# Altium schematic symbol library GSM-V2.SCHLIB: 45 symbols
Pins are listed as number, name and electrical type; pins without a type are passive.

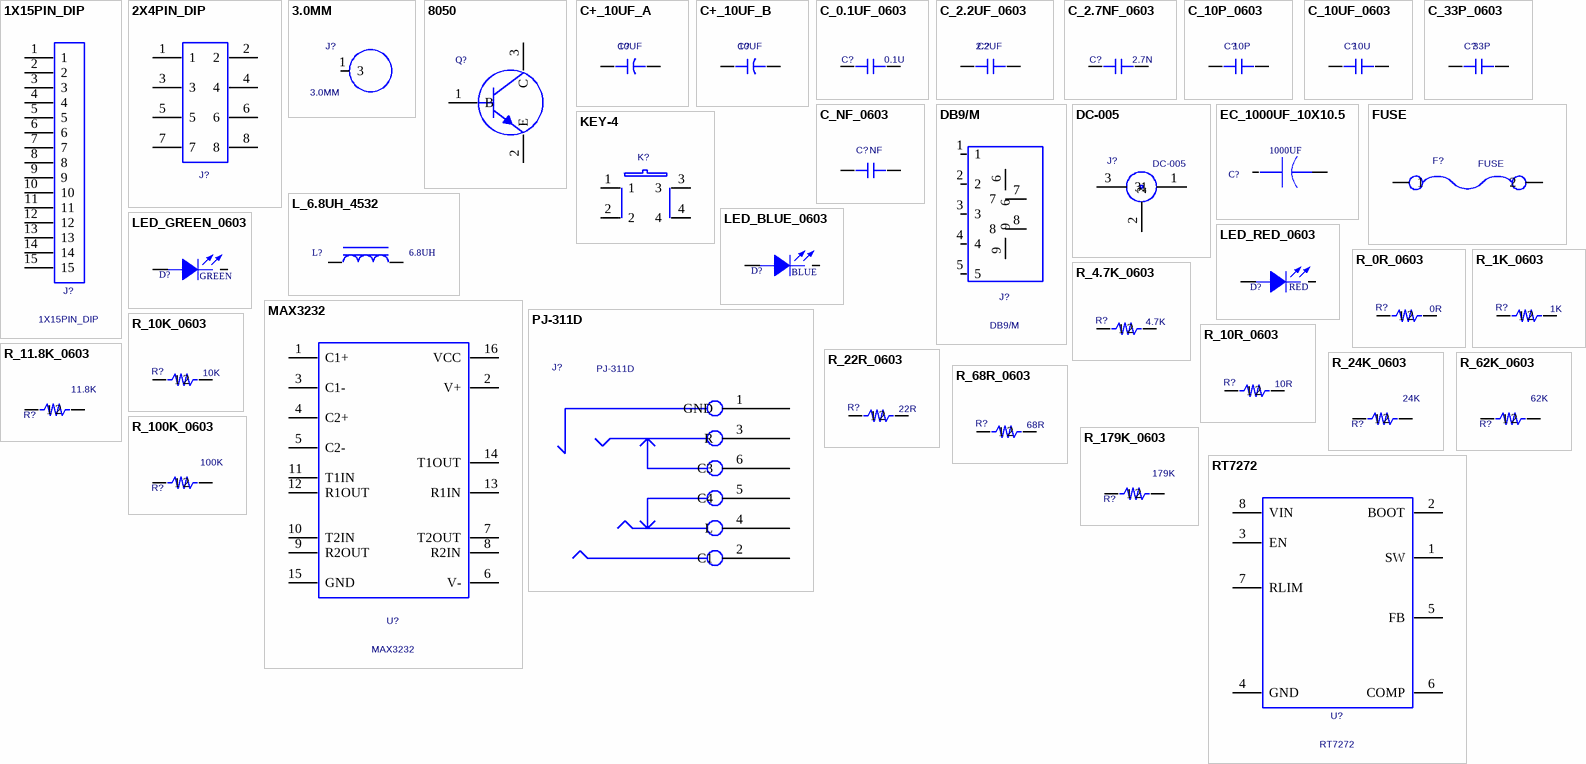
[diagram p0: symbols 1X15PIN_DIP to RT7272]

## 1X15PIN_DIP
designator J?
PCB DECAL: 1X15PIN_DIP
footprint 1X15PIN_DIP
pins: 1, 2, 3, 4, 5, 6, 7, 8, 9, 10, 11, 12, 13, 14, 15

## 2X4PIN_DIP
designator J?  (value not drawn)
PCB DECAL: 2X4PIN_DIP
footprint 2X4PIN_DIP
pins: 1, 2, 3, 4, 5, 6, 7, 8

## 3.0MM
designator J?
PCB DECAL: 3.0MM-5
footprint 3.0MM-5
pins: 1 3

## 8050
designator Q?  (value not drawn)
NPN; PCB DECAL: SOT-23; Manufacturer #2: 8050
footprint SOT-23
pins: 1 B, 2 E, 3 C

## C+_10UF_A
designator C?  value 10UF  (hidden comment: C+_10UF_A)
PCB DECAL: AVX_A_3216-18
footprint AVX_A_3216-18
pins: 1 +, 2 -

## C+_10UF_B
designator C?  value 10UF  (hidden comment: C+_10UF_B)
PCB DECAL: AVX_B_3528-21
footprint AVX_B_3528-21
pins: 1 +, 2 -

## C_0.1UF_0603
designator C?  value 0.1U  (hidden comment: C_0.1UF_0603)
PCB DECAL: C_0603
footprint C_0603
pins: 1, 2

## C_2.2UF_0603
designator C?  value 2.2UF  (hidden comment: C_2.2UF_0603)
PCB DECAL: R_0603
footprint R_0603
pins: 1, 2

## C_2.7NF_0603
designator C?  value 2.7N  (hidden comment: C_2.7NF_0603)
PCB DECAL: C_0603
footprint C_0603
pins: 1, 2

## C_10P_0603
designator C?  value 10P  (hidden comment: C_10P_0603)
PCB DECAL: C_0603
footprint C_0603
pins: 1, 2

## C_10UF_0603
designator C?  value 10U  (hidden comment: C_10UF_0603)
PCB DECAL: C_0603
footprint C_0603
pins: 1, 2

## C_33P_0603
designator C?  value 33P  (hidden comment: C_33P_0603)
PCB DECAL: C_0603
footprint C_0603
pins: 1, 2

## C_NF_0603
designator C?  value NF  (hidden comment: C_NF_0603)
PCB DECAL: R_0603
footprint R_0603
pins: 1, 2

## DB9/M
designator J?
PCB DECAL: DB9
footprint DB9
pins: 1, 2, 3, 4, 5, 6, 7, 8, 9

## DC-005
designator J?
PCB DECAL: DC-005
footprint DC-005
pins: 1, 2, 3

## EC_1000UF_10X10.5
designator C?  value 1000UF  (hidden comment: EC_1000UF_10X10.5)
PCB DECAL: EC_8X8
footprint EC_8X8
pins: 1, 2

## FUSE
designator F?
PCB DECAL: FUSE_1812; Value: FUSE
footprint FUSE_1812
pins: 1, 2

## KEY-4
designator K?  (value not drawn)
PCB DECAL: SW6.2/6.2-SMD
footprint SW6.2/6.2-SMD
pins: 1, 2, 3, 4

## L_6.8UH_4532
designator L?  value 6.8UH  (hidden comment: L_6.8UH_4532)
PCB DECAL: GDCD4532
footprint GDCD4532
pins: 1, 2

## LED_BLUE_0603
designator D?  value BLUE  (hidden comment: LED_BLUE_0603)
PCB DECAL: LED_0603
footprint LED_0603
pins: A ANODE, K CATHODE

## LED_GREEN_0603
designator D?  value GREEN  (hidden comment: LED_GREEN_0603)
PCB DECAL: LED_0603
footprint LED_0603
pins: A ANODE, K CATHODE

## LED_RED_0603
designator D?  value RED  (hidden comment: LED_RED_0603)
PCB DECAL: LED_0603
footprint LED_0603
pins: A ANODE, K CATHODE

## MAX3232
designator U?
PCB DECAL: MAX3232
footprint MAX3232
pins: 1 C1+, 2 V+, 3 C1-, 4 C2+, 5 C2-, 6 V-, 7 T2OUT, 8 R2IN, 9 R2OUT, 10 T2IN, 11 T1IN, 12 R1OUT, 13 R1IN, 14 T1OUT, 15 GND, 16 VCC

## PJ-311D
designator J?
Multilevel DAC Including Headphone Amplifier; Manufacturer #1: TI; Manufacturer #1 PN: PCM1770; Value: PCM1770; PCB DECAL: PJ-311
footprint PJ-311
pins: 1 GND, 2 C1, 3 R, 4 L, 5 C4, 6 C3

## R_0R_0603
designator R?  value 0R  (hidden comment: R_0R_0603)
PCB DECAL: R_0603
footprint R_0603
pins: 1, 2

## R_1K_0603
designator R?  value 1K  (hidden comment: R_1K_0603)
PCB DECAL: R_0603
footprint R_0603
pins: 1, 2

## R_4.7K_0603
designator R?  value 4.7K  (hidden comment: R_4.7K_0603)
PCB DECAL: R_0603
footprint R_0603
pins: 1, 2

## R_10K_0603
designator R?  value 10K  (hidden comment: R_10K_0603)
PCB DECAL: R_0603
footprint R_0603
pins: 1, 2

## R_10R_0603
designator R?  value 10R  (hidden comment: R_10R_0603)
PCB DECAL: R_0603
footprint R_0603
pins: 1, 2

## R_11.8K_0603
designator R?  value 11.8K  (hidden comment: R_11.8K_0603)
PCB DECAL: R_0603
footprint R_0603
pins: 1, 2

## R_22R_0603
designator R?  value 22R  (hidden comment: R_22R_0603)
PCB DECAL: R_0603
footprint R_0603
pins: 1, 2

## R_24K_0603
designator R?  value 24K  (hidden comment: R_24K_0603)
PCB DECAL: R_0603
footprint R_0603
pins: 1, 2

## R_62K_0603
designator R?  value 62K  (hidden comment: R_62K_0603)
PCB DECAL: R_0603
footprint R_0603
pins: 1, 2

## R_68R_0603
designator R?  value 68R  (hidden comment: R_68R_0603)
PCB DECAL: R_0603
footprint R_0603
pins: 1, 2

## R_100K_0603
designator R?  value 100K  (hidden comment: R_100K_0603)
PCB DECAL: R_0603
footprint R_0603
pins: 1, 2

## R_179K_0603
designator R?  value 179K  (hidden comment: R_179K_0603)
PCB DECAL: R_0603
footprint R_0603
pins: 1, 2

## RT7272
designator U?
PCB DECAL: RT7272
footprint RT7272
pins: 1 SW, 2 BOOT, 3 EN, 4 GND, 5 FB, 6 COMP, 7 RLIM, 8 VIN

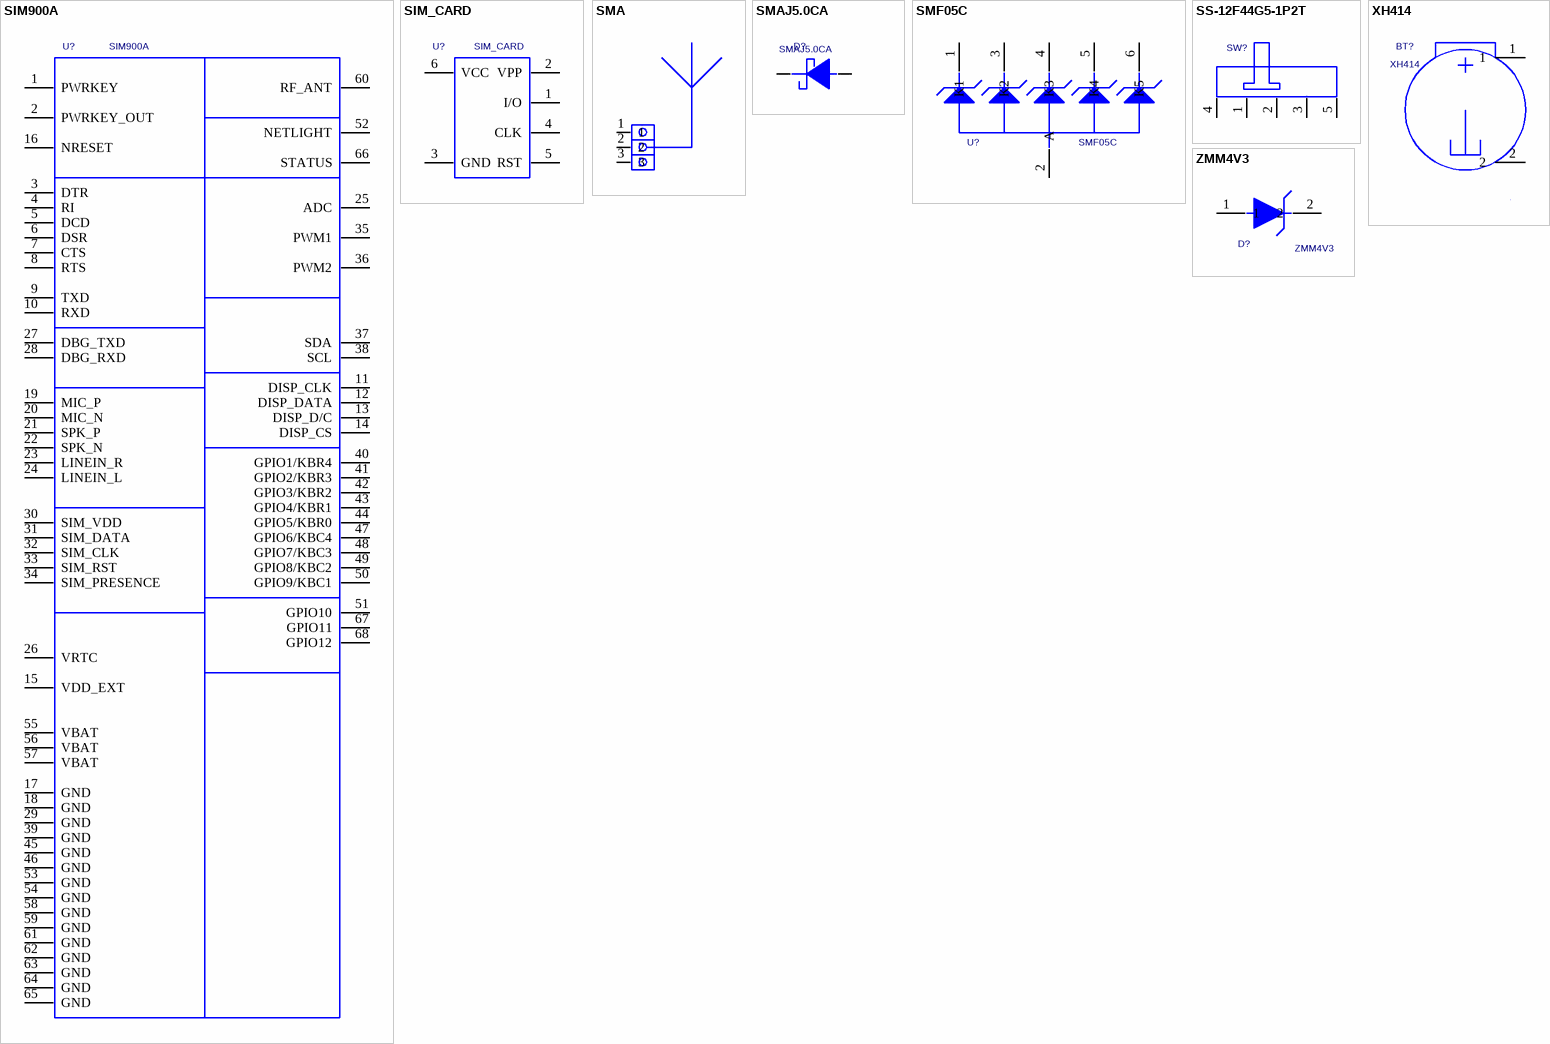
[diagram p1: symbols SIM900A to ZMM4V3]

## SIM900A
designator U?
PCB DECAL: SIM900A
footprint SIM900A
pins: 1 PWRKEY, 2 PWRKEY_OUT, 3 DTR, 4 RI, 5 DCD, 6 DSR, 7 CTS, 8 RTS, 9 TXD, 10 RXD, 11 DISP_CLK, 12 DISP_DATA, 13 DISP_D/C, 14 DISP_CS, 15 VDD_EXT, 16 NRESET, 17 GND, 18 GND, 19 MIC_P, 20 MIC_N, 21 SPK_P, 22 SPK_N, 23 LINEIN_R, 24 LINEIN_L, 25 ADC, 26 VRTC, 27 DBG_TXD, 28 DBG_RXD, 29 GND, 30 SIM_VDD, 31 SIM_DATA, 32 SIM_CLK, 33 SIM_RST, 34 SIM_PRESENCE, 35 PWM1, 36 PWM2, 37 SDA, 38 SCL, 39 GND, 40 GPIO1/KBR4, 41 GPIO2/KBR3, 42 GPIO3/KBR2, 43 GPIO4/KBR1, 44 GPIO5/KBR0, 45 GND, 46 GND, 47 GPIO6/KBC4, 48 GPIO7/KBC3, 49 GPIO8/KBC2, 50 GPIO9/KBC1, 51 GPIO10, 52 NETLIGHT, 53 GND, 54 GND, 55 VBAT, 56 VBAT, 57 VBAT, 58 GND, 59 GND, 60 RF_ANT, 61 GND, 62 GND, 63 GND, 64 GND, 65 GND, 66 STATUS, 67 GPIO11, 68 GPIO12

## SIM_CARD
designator U?
Value: SIM_CARD; PCB DECAL: SIM_CARD
footprint SIM_CARD
pins: 1 I/O, 2 VPP, 3 GND, 4 CLK, 5 RST, 6 VCC

## SMA
designator J?  (value not drawn)
PCB DECAL: SMA
footprint SMA
pins: 1, 2, 3

## SMAJ5.0CA
designator D?
Value: SMAJ5.0CA; PCB DECAL: SMAJ5.0CA
footprint SMAJ5.0CA
pins: 1 +, 2 -

## SMF05C
designator U?
PCB DECAL: SOT-363; Value: SMF05C
footprint SOT-363
pins: 1 K1, 2 A, 3 K2, 4 K3, 5 K4, 6 K5

## SS-12F44G5-1P2T
designator SW?  (value not drawn)
PCB DECAL: SS-12F44G5-1P2T
footprint SS-12F44G5-1P2T
pins: 1, 2, 3, 4, 5

## XH414
designator BT?
PCB DECAL: XH414
footprint XH414
pins: 1, 2

## ZMM4V3
designator D?
Value: 4.3V; PCB DECAL: ZMM4V3
footprint ZMM4V3
pins: 1, 2